# Altium schematic symbol library DG-306-2.Schlib: 1 symbol
Pins are listed as number, name and electrical type; pins without a type are passive.

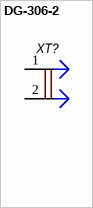
[diagram p0: symbol DG-306-2]

## DG-306-2
designator XT?
P=5.0mm Screw terminal ROHS; Value: WJ301V-5.0-2P; ComponentLink1Description: LCSC - Ningbo Kangnex Elec WJ301V-5.0-2P; ComponentLink1URL: https://lcsc.com/product-detail/Pluggable-System-Terminal-Block_Ningbo-Kangnex-Elec-WJ301V-5-0-2P_C8475.html; LCSC Part #: C8475; JLCPCB Part Type: Extended
footprint DG-306-2
pins: 1, 2